# Altium schematic symbol library MyLib.SchLib: 36 symbols
Pins are listed as number, name and electrical type; pins without a type are passive.

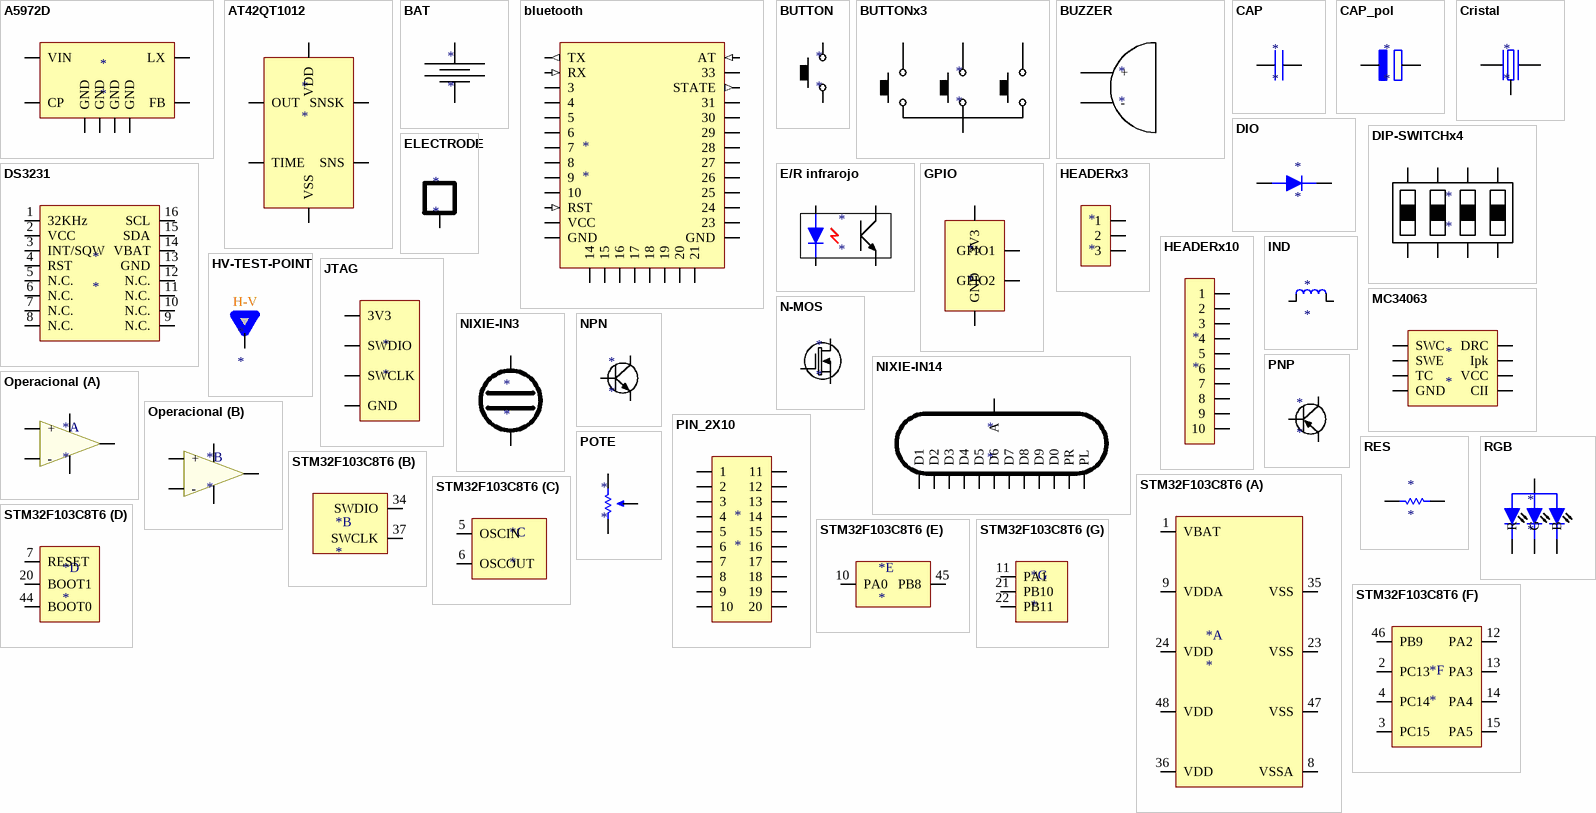
[diagram p0: symbols A5972D to STM32F103C8T6]

## A5972D
designator *
footprint SOIC-8
pins: 1 LX, 2 GND, 3 GND, 4 CP, 5 FB, 6 GND, 7 GND, 8 VIN

## AT42QT1012
designator *
footprint SOT-23-6
pins: 1 OUT, 2 VSS, 3 SNSK, 4 SNS, 5 VDD, 6 TIME

## BAT
designator *
footprint HOLDER-2032
footprint 120591-1
pins: 1 +, 2 -

## bluetooth
designator *
footprint HC-05
pins: 1 TX (out), 2 RX (in), 3, 4, 5, 6, 7, 8, 9, 10, 11 RST (in), 12 VCC, 13 GND, 14, 15, 16, 17, 18, 19, 20, 21, 22 GND, 23, 24, 25, 26, 27, 28, 29, 30, 31, 32 STATE (out), 33, 34 AT (in)

## BUTTON
designator *
footprint FSMSM
pins: 1, 2

## BUTTONx3
designator *
footprint BORNERAx4
pins: 1, 2, 3, 4

## BUZZER
designator *
footprint BUZZER
pins: 1 +, 2 -

## CAP
designator *
footprint 0603
pins: 1, 2

## CAP_pol
designator *
footprint CAP-SIZE-F
footprint AVX-B-CASE
pins: 1, 2

## Cristal
designator *
footprint ABM3B
pins: 1, 2, 3

## DIO
designator *
footprint DO-222AA
footprint SOD-123F
footprint SMA
pins: 1, 2

## DIP-SWITCHx4
designator *
footprint DIP-SWITCH-X4-J-BEND
pins: 1, 2, 3, 4, 5, 6, 7, 8

## DS3231
designator *
footprint SO16W
pins: 1 32KHz, 2 VCC, 3 INT/SQW, 4 RST, 5 N.C., 6 N.C., 7 N.C., 8 N.C., 9 N.C., 10 N.C., 11 N.C., 12 N.C., 13 GND, 14 VBAT, 15 SDA, 16 SCL

## E/R infrarojo
designator *
footprint BORNERAx4
pins: 1, 2, 3, 4

## ELECTRODE
designator *
footprint BORNERAx2
pins: 1

## GPIO
designator *
footprint PIN-HEADERx4-
pins: 1 3V3, 2 GPIO1, 3 GPIO2, 4 GND

## HEADERx3
designator *
footprint HEADERx3
pins: 1, 2, 3

## HEADERx10
designator *
footprint HEADERx10
pins: 1, 2, 3, 4, 5, 6, 7, 8, 9, 10

## HV-TEST-POINT
designator *
footprint Test_Point_HV
pins: 1
text: H-V

## IND
designator *
footprint SRR1240
footprint 12.5x12.5
pins: 1, 2

## JTAG
designator *
footprint PIN-HEADERx4
pins: 1 3V3, 2 SWDIO, 3 SWCLK, 4 GND

## MC34063
designator *
footprint SOIC-8
pins: 1 SWC, 2 SWE, 3 TC, 4 GND, 5 CII, 6 VCC, 7 Ipk, 8 DRC

## N-MOS
designator *
footprint TO263-3S
pins: 1 G, 2 S, 3 D

## NIXIE-IN3
designator *
footprint NIXIE_IN-3
pins: 1, 2

## NIXIE-IN14
designator *
footprint NIXIE_IN-14
pins: 1 A, 2 PL, 3 D1, 4 D2, 5 D3, 6 D4, 7 D5, 8 D6, 9 D7, 10 D8, 11 D9, 12 D0, 13 PR

## NPN
designator *
footprint SOT-23
pins: 1 B, 2 E, 3 C

## Operacional
designator *
footprint SOIC-8
part A pins: 1 VOa, 2 -, 3 +, 4 GND, 8 VCC
part B pins: 4 GND, 5 +, 6 -, 7 VOb, 8 VCC

## PIN_2X10
designator *
footprint PIN_2X10_HDR
footprint PIN_2X10_SKT
pins: 1, 2, 3, 4, 5, 6, 7, 8, 9, 10, 11, 12, 13, 14, 15, 16, 17, 18, 19, 20

## PNP
designator *
footprint SOT-23
pins: 1 B, 2 E, 3 C

## POTE
designator *
footprint 3006P
footprint 3296W
pins: 1, 2, 3

## RES
designator *
footprint 0603
pins: 1, 2

## RGB
designator *
footprint 1205-RGB
footprint 1210-RGB
pins: 1 R, 2 A, 3 B, 4 G

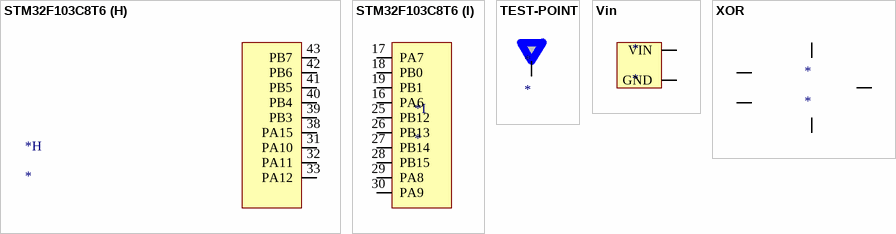
[diagram p1: symbols STM32F103C8T6 to XOR]

## STM32F103C8T6
designator *
footprint LQFP48
part A pins: 1 VBAT, 8 VSSA, 9 VDDA, 23 VSS, 24 VDD, 35 VSS, 36 VDD, 47 VSS, 48 VDD
part B pins: 34 SWDIO, 37 SWCLK
part C pins: 5 OSCIN, 6 OSCOUT
part D pins: 7 RESET, 20 BOOT1, 44 BOOT0
part E pins: 10 PA0, 45 PB8
part F pins: 2 PC13, 3 PC15, 4 PC14, 12 PA2, 13 PA3, 14 PA4, 15 PA5, 46 PB9
part G pins: 11 PA1, 21 PB10, 22 PB11
part H pins: 31 PA10, 32 PA11, 33 PA12, 38 PA15, 39 PB3, 40 PB4, 41 PB5, 42 PB6, 43 PB7
part I pins: 16 PA6, 17 PA7, 18 PB0, 19 PB1, 25 PB12, 26 PB13, 27 PB14, 28 PB15, 29 PA8, 30 PA9

## TEST-POINT
designator *
footprint Test_Point
pins: 1

## Vin
designator *
footprint HEADERx2_POL
pins: 1 VIN, 2 GND

## XOR
designator *
footprint SOT-23-5
pins: 1 IN1, 2 IN2, 3 GND, 4 OUT, 5 VCC